# Altium schematic symbol library 接口库原理图.SchLib: 21 symbols
Pins are listed as number, name and electrical type; pins without a type are passive.

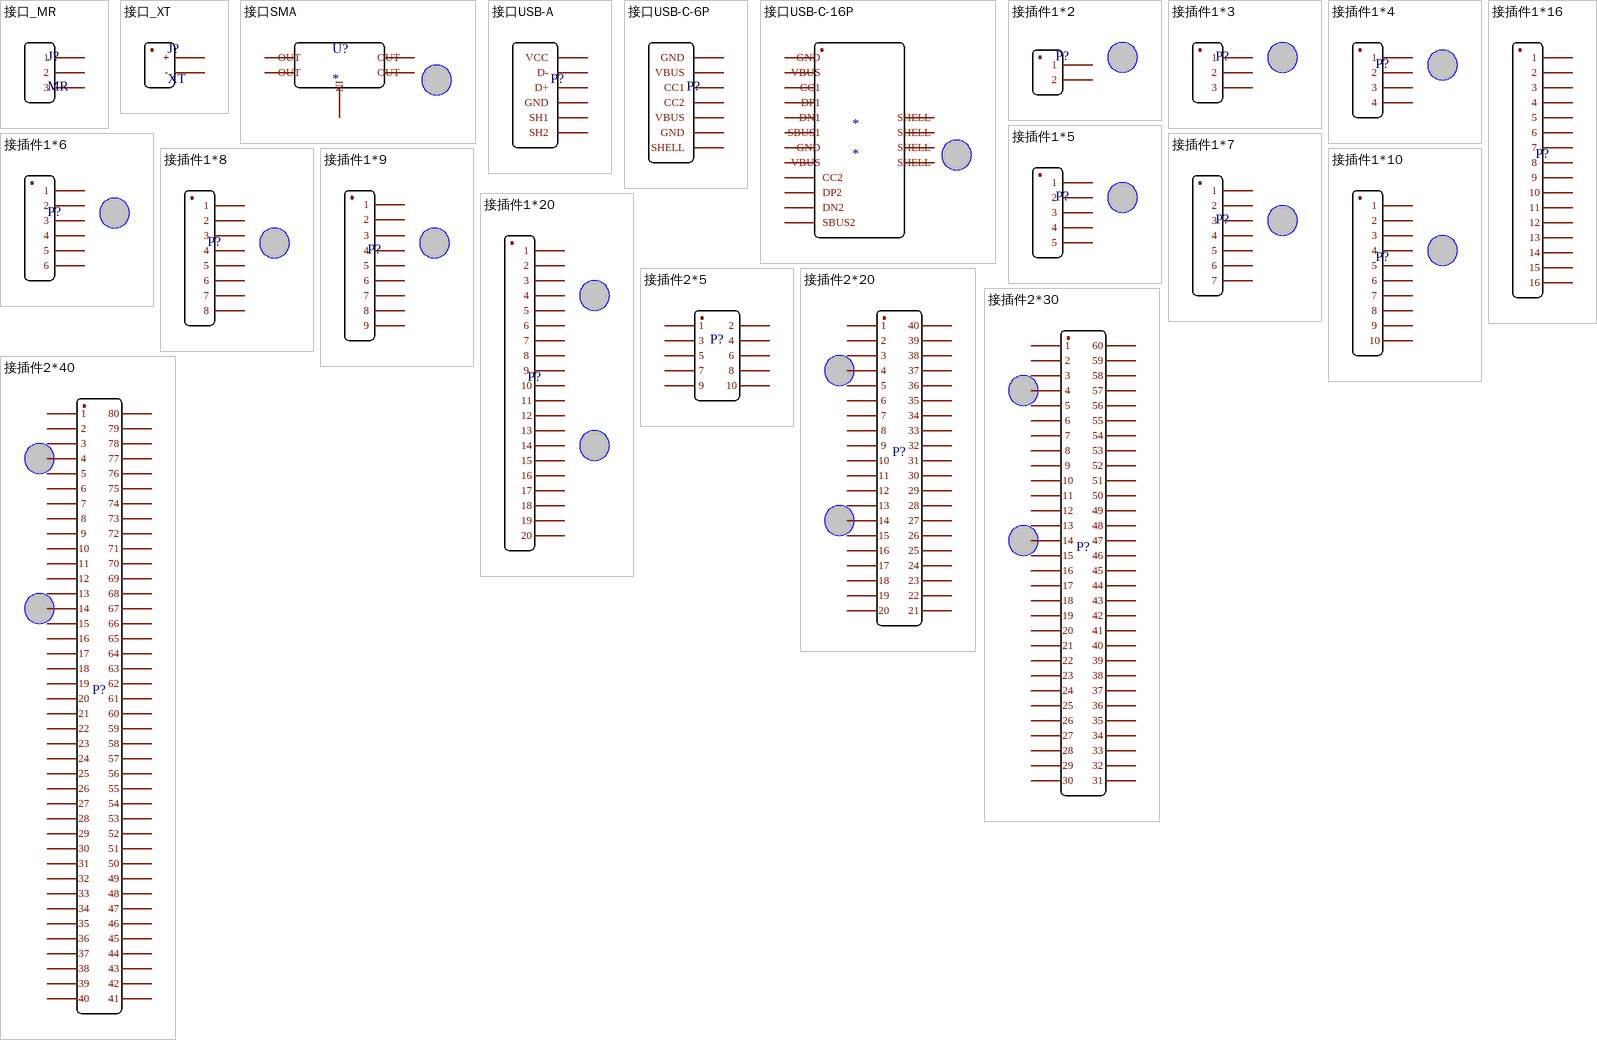
[diagram p0: symbols 接口_MR to 接插件2*40]

## 接口_MR
designator J?, comment MR
footprint MR30-FB
footprint MR30-PB-M
footprint MR30PW-FB
pins: 1, 2, 3

## 接口_XT
designator J?, comment XT
footprint XT30-UPB-F (XT30-无锁-直插立式-母头)
footprint XT30-UPB-M (XT30-无锁-直插立式-公头)
footprint XT60-PB-F (XT60-无锁-直插立式-母头)
footprint XT60-PB-M (XT60-无锁-直插立式-公头)
footprint XT60-PW-F (XT60-无锁-直插卧式-母头)
footprint XT60-PW-M (XT60-无锁-直插卧式-公头)
footprint XT30-PW-F (XT30-无锁-直插卧式-母头)
footprint XT30-PW-M (XT30-无锁-直插卧式-公头)
footprint XT60-PT-M
pins: 1, 2
text: +; -

## 接口SMA
designator U?
footprint SMA_KE
footprint SMA_KHD
pins: 1, 2, 3, 4, 5
text: OUT; IN

## 接口USB-A
designator P?
footprint USB-TypeA-PW-F
pins: 1, 2, 3, 4, 5, 6
text: VCC; D-; D+; GND; SH1; SH2

## 接口USB-C-6P
designator P?
footprint USB-TypeC-PW-F-6P
pins: 1, 2, 3, 4, 5, 6, 7
text: GND; VBUS; CC1; CC2; SHELL

## 接口USB-C-16P
designator *
footprint USB-TypeC-PW-F-16P
pins: 13 8, 14 8, 15 8, 16 8, A1B12 1, A4B9 2, A5 3, A6 4, A7 5, A8 6, B1A12 7, B4A9 8, B5 8, B6 8, B7 8, B8 8
text: GND; VBUS; CC1; DP1; DN1; SHELL; SBUS1; CC2; DP2; DN2; SBUS2

## 接插件1*2
designator P?
footprint Pin-PB-F-1*2
footprint Pin-PB-M-1*2
footprint XH2.54-PB-1*2
footprint XH2.54-PW-1*2
footprint XH2.54_AW_1*2
footprint GH1.25-PW-1*2
pins: 1, 2

## 接插件1*3
designator P?
footprint Pin-PB-F-1*3
footprint Pin-PB-M-1*3
footprint XH2.54-PB-1*3
footprint XH2.54-PW-1*3
footprint PIN-PW-M-1*3
footprint XH2.54_AW_1*3
footprint GH1.25-PW-1*3
pins: 1, 2, 3

## 接插件1*4
designator P?
footprint Pin-PB-F-1*4
footprint Pin-PB-M-1*4
footprint XH2.54-PW-1*4
footprint XH2.54-PB-1*4
footprint PIN-PW-M-1*4
footprint GH1.25-PW-1*4
footprint XH2.54_AW_1*4
pins: 1, 2, 3, 4

## 接插件1*5
designator P?
footprint Pin-PB-F-1*5
footprint Pin-PB-M-1*5
footprint XH2.54-PW-1*5
footprint XH2.54-PB-1*5
footprint XH2.54_AW_1*5
footprint GH1.25-PW-1*5
pins: 1, 2, 3, 4, 5

## 接插件1*6
designator P?
footprint Pin-PB-F-1*6
footprint Pin-PB-M-1*6
footprint XH2.54-PB-1*6
footprint XH2.54-PW-1*6
footprint XH2.54_AW_1*6
footprint GH1.25-PW-1*6
pins: 1, 2, 3, 4, 5, 6

## 接插件1*7
designator P?
footprint Pin-PB-F-1*7
footprint Pin-PB-M-1*7
footprint XH2.54-PB-1*7
footprint XH2.54-PW-1*7
footprint XH2.54_AW_1*7
pins: 1, 2, 3, 4, 5, 6, 7

## 接插件1*8
designator P?
footprint Pin-PB-F-1*8
footprint Pin-PB-M-1*8
footprint XH2.54-PB-1*8
footprint XH2.54-PW-1*8
footprint GH1.25-PW-1*8
footprint XH2.54_AW_1*8
pins: 1, 2, 3, 4, 5, 6, 7, 8

## 接插件1*9
designator P?
footprint Pin-PB-M-1*9
footprint Pin-PB-F-1*9
pins: 1, 2, 3, 4, 5, 6, 7, 8, 9

## 接插件1*10
designator P?
footprint Pin-PB-F-1*10
footprint Pin-PB-M-1*10
pins: 1, 2, 3, 4, 5, 6, 7, 8, 9, 10

## 接插件1*16
designator P?
footprint Pin-PB-M-1*16
pins: 1, 2, 3, 4, 5, 6, 7, 8, 9, 10, 11, 12, 13, 14, 15, 16

## 接插件1*20
designator P?
footprint Pin-PB-M-1*20
footprint Pin-PB-F-1*20
pins: 1, 2, 3, 4, 5, 6, 7, 8, 9, 10, 11, 12, 13, 14, 15, 16, 17, 18, 19, 20

## 接插件2*5
designator P?
footprint Pin-PB-M-2*5
footprint Pin-PB-F-2*5
pins: 1, 2, 3, 4, 5, 6, 7, 8, 9, 10

## 接插件2*20
designator P?
footprint BTB_F_20*2*0.8mm
footprint BTB_M_20*2*0.8mm
pins: 1, 2, 3, 4, 5, 6, 7, 8, 9, 10, 11, 12, 13, 14, 15, 16, 17, 18, 19, 20, 21 20, 22 20, 23 20, 24 20, 25 20, 26 20, 27 20, 28 20, 29 20, 30 20, 31 20, 32 20, 33 20, 34 20, 35 20, 36 20, 37 20, 38 20, 39 20, 40 20

## 接插件2*30
designator P?
footprint BTB_F_30*2*0.8mm
footprint BTB_M_30*2*0.8mm
footprint PIN-PB-M-2*30
pins: 1, 2, 3, 4, 5, 6, 7, 8, 9, 10, 11, 12, 13, 14, 15, 16, 17, 18, 19, 20, 21, 22, 23, 24, 25, 26, 27, 28, 29, 30, 31, 32, 33, 34, 35, 36, 37, 38, 39, 40, 41, 42, 43, 44, 45, 46, 47, 48, 49, 50, 51, 52, 53, 54, 55, 56, 57, 58, 59, 60

## 接插件2*40
designator P?
footprint BTB_F_40*2*0.8mm
footprint BTB_M_40*2*0.8mm
pins: 1, 2, 3, 4, 5, 6, 7, 8, 9, 10, 11, 12, 13, 14, 15, 16, 17, 18, 19, 20, 21, 22, 23, 24, 25, 26, 27, 28, 29, 30, 31, 32, 33, 34, 35, 36, 37, 38, 39, 40, 41, 42, 43, 44, 45, 46, 47, 48, 49, 50, 51, 52, 53, 54, 55, 56, 57, 58, 59, 60, 61, 62, 63, 64, 65, 66, 67, 68, 69, 70, 71, 72, 73, 74, 75, 76, 77, 78, 79, 80